# Altium footprint library Capacitor.PcbLib: 76 footprints (part 4 of 5)
Each footprint in its own frame and in the unit in brackets; x right, y up, seen from the top. Pads: shape width x height; smd on the part's side, far side on the other; paste and mask are expansions set on the pad; w line width, h text height; cw(c..) or ccw(c..) is an arc to the next point about the centre after c.
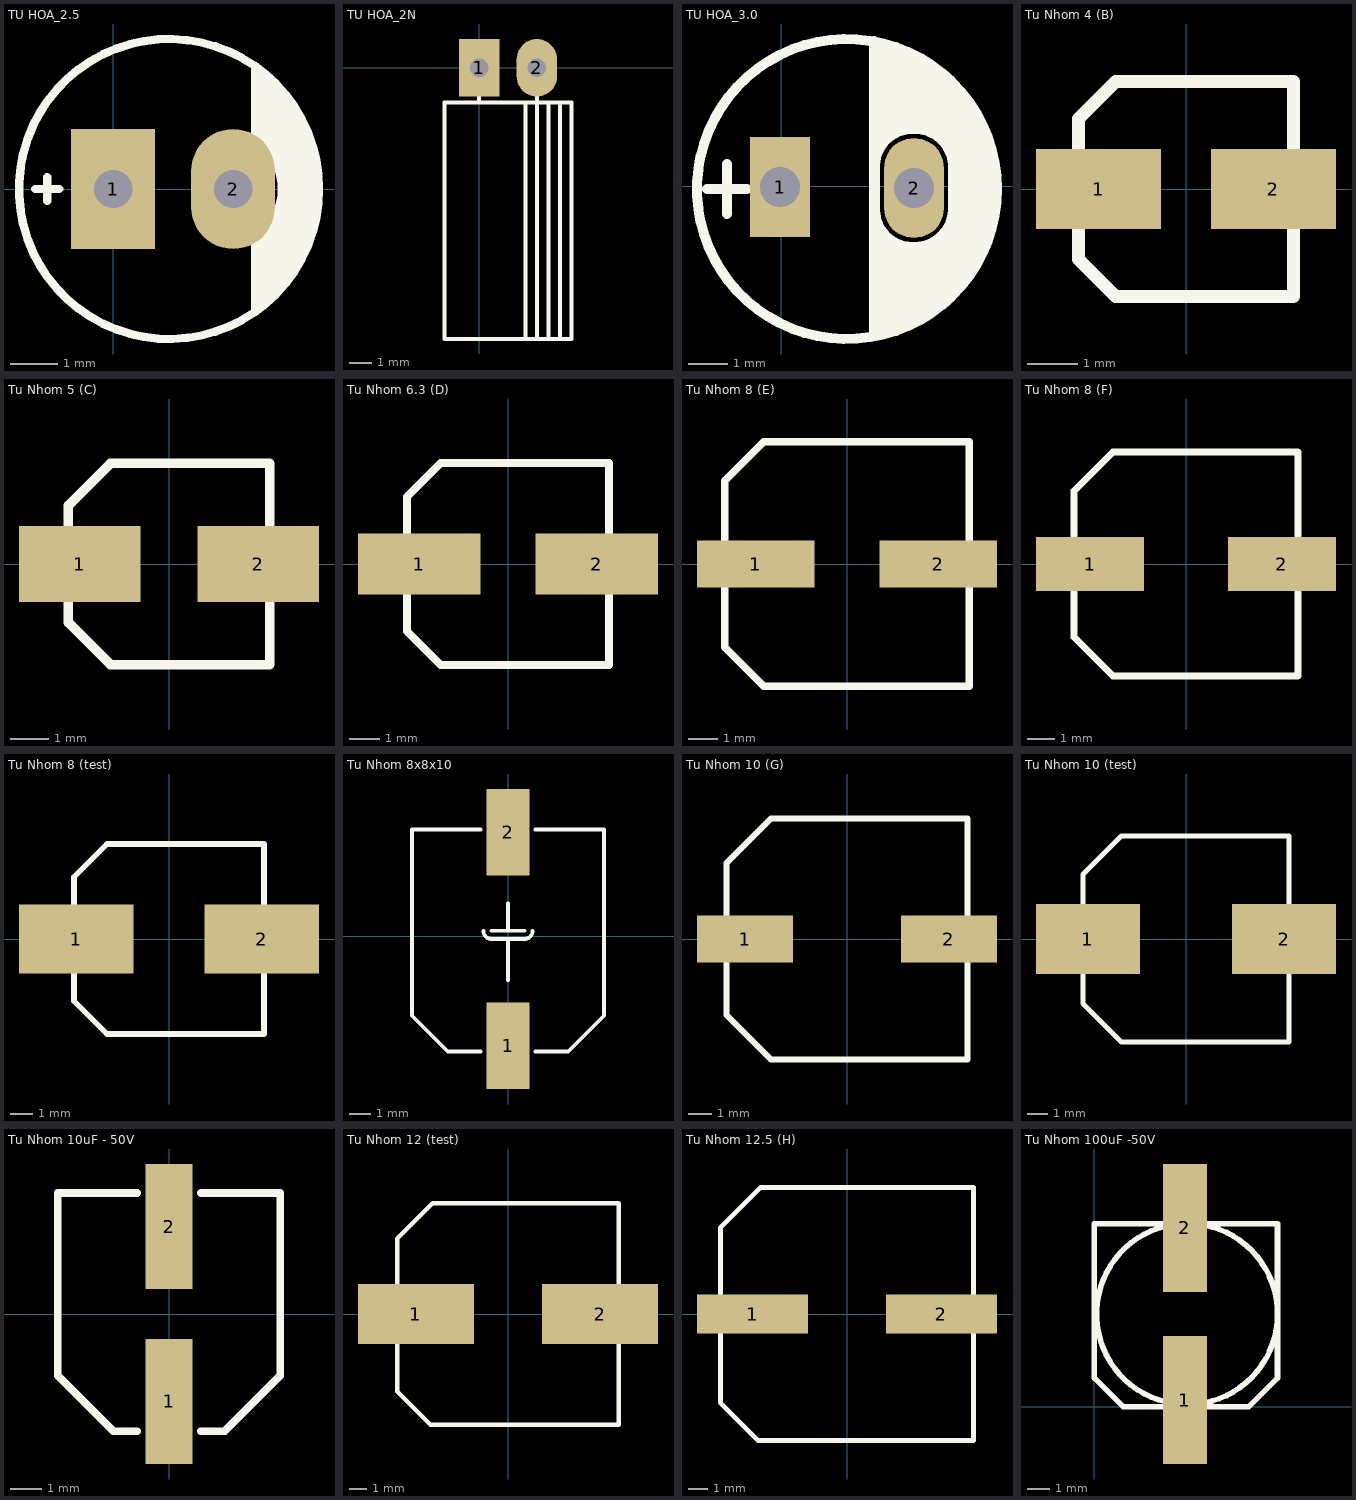
[diagram p3: the footprints below, top view; thin cyan lines are the x and y axes]

## TU HOA_2.5 [mil] "Tu hoa 33 >100 uF,50V, 220uF/16V,25V"
height 300
pads (2):
  rect 70x100 hole 32: 1(0,0)
  oval 70x100 hole 32: 2(100,0)
Top Overlay:
  circle w7: c46.58,0 r125
  region: 115,105 115,36 122,31 129,25 133,20 135,15 137,5 137,-6 135,-14 132,-19 128,-24 124,-28 120,-31 115,-34 115,-107 124,-99 139,-86 152,-69 167,-36 171,-15 171.58,0 167,30 153,67 131,93
  lines w7: -65,0 -45,0 ; -55,-10 -55,-5 -55,5 -55,10
3D body "User Library-Cap 6_3x11.STEP": height 421.54, standoff -759.57, extent -76,-124.03 172.03,124

## TU HOA_2N [mil] "Tu hoa < 22uF/16>50V"
height 300
pads (2):
  rect 70x100 hole 32: 1(0,0)
  oval 70x100 hole 32: 2(100,0)
Top Overlay:
  lines w7: 0,-60 0,-45 ; 80,-470 80,-60 ; 100,-470 100,-60 100,-45 ; 120,-470 120,-60 ; 140,-470 140,-60 ; -60,-470 -60,-60 160,-60 160,-470 -60,-470
3D body "User Library-Cap electro 5x7x2mm RA.STEP": height 199.43, standoff -136.22, extent -54.42,-351.27 144.43,15.7

## TU HOA_3.0 [mil]
pads (2):
  rect 60x100 hole 40: 1(-1,-1)
  oval 60x100 hole 40: 2(133,-2)
Top Overlay:
  circle w10: c66,-3 r150
  region: 93,146 93,37 121,58 143,58 165,42 174,-3 166,-43 141,-62 106,-53 92,-36 93,-150 152,-128 208,-60 216,16 185,93 139,129
  lines w10: -74,-3 -34,-3 ; -54,-28 -54,22 ; 93,-147 93,145 ; 94,-27 94,22 cw(c131.5,19.5) 131.01,57.08 ; 94,-25 ccw(c131.5,-23.5) 133,-61 ccw(c133.5,-22.5) 172,-23 ; 131,57 cw(c134,19) 172,22 ; 172,-30 172,25
3D body "User Library-CAP 8X11_5.STEP": height 452.87, standoff -747.43, extent -90,-162.48 224.96,152.48

## Tu Nhom 4 (B) [mm]
pads (2):
  rect 2.5x1.6 smd: 1(-1.75,0) 2(1.75,0)
Top Overlay:
  lines w0.254: -2.15,-1.406 -2.15,1.406 -1.406,2.15 2.15,2.15 2.15,-2.15 -1.406,-2.15 -2.15,-1.406
3D body "aluminum capacitor 4mm.STEP": height 3.91, standoff 0, extent -2.314,-2.15 2.286,2.15

## Tu Nhom 5 (C) [mm]
pads (2):
  rect 3.2x2 smd: 1(-2.35,0) 2(2.35,0)
Top Overlay:
  lines w0.254: -2.65,-1.541 -2.65,1.541 -1.541,2.65 2.65,2.65 2.65,-2.65 -1.541,-2.65 -2.65,-1.541
3D body "aluminum capacitor 5x5_4.step": height 5.7, standoff 0, extent -3.15,-2.65 3.15,2.65

## Tu Nhom 6.3 (D) [mm]
pads (2):
  rect 4x2 smd: 1(-2.9,0) 2(2.9,0)
Top Overlay:
  lines w0.254: -3.3,-2.2 -2.2,-3.3 3.3,-3.3 3.3,3.3 -2.2,3.3 -3.3,2.2 -3.3,-2.2
3D body "aluminum capacitor 6_3x7_7.step": height 8, standoff 0, extent -3.8,-3.3 3.8,3.3

## Tu Nhom 8 (E) [mm]
pads (2):
  rect 4x1.6 smd: 1(-3.1,0) 2(3.1,0)
Top Overlay:
  lines w0.254: -4.15,-2.835 -2.835,-4.15 4.15,-4.15 4.15,4.15 -2.835,4.15 -4.15,2.835 -4.15,-2.835
3D body "aluminum capacitor 8mm.STEP": height 10.5, standoff 0, extent -4.877,-4.25 4.823,4.25

## Tu Nhom 8 (F) [mm]
pads (2):
  rect 4x2 smd: 1(-3.55,0) 2(3.55,0)
Top Overlay:
  lines w0.254: -4.15,-2.708 -2.708,-4.15 4.15,-4.15 4.15,4.15 -2.708,4.15 -4.15,2.708 -4.15,-2.708
3D body "aluminum capacitor 8mm.STEP": height 10.5, standoff 0, extent -4.852,-4.25 4.848,4.25

## Tu Nhom 8 (test) [mm]
pads (2):
  rect 5x3 smd: 1(-4.05,0) 2(4.05,0)
Top Overlay:
  lines w0.254: -4.15,-2.708 -2.708,-4.15 4.15,-4.15 4.15,4.15 -2.708,4.15 -4.15,2.708 -4.15,-2.708
3D body "aluminum capacitor 8mm.STEP": height 10.5, standoff 0, extent -4.852,-4.25 4.848,4.25

## Tu Nhom 8x8x10 [mm] "100uF-50v"
pads (2):
  rect 2x4 smd: 1(0,-5.08) 2(0,4.826)
Top Overlay:
  lines w0.178: -1.27,-5.334 -2.794,-5.334 -4.445,-3.683 -4.445,4.953 -1.27,4.953 ; -1.143,0.254 ccw(c-0.762,0.254) -0.762,-0.127 0,-0.127 ; -0.762,0.254 0.762,0.254 ; 0,-2.032 0,-0.127 ; 0,0.254 0,1.524 ; 1.143,0.254 cw(c0.762,0.254) 0.762,-0.127 0,-0.127 ; 1.27,-5.334 2.794,-5.334 4.445,-3.683 4.445,4.953 1.27,4.953
3D body "Tu nhom 8x8x10.STEP": height 10.51, standoff 0.01, extent -4.25,-5.106 4.25,4.594

## Tu Nhom 10 (G) [mm]
pads (2):
  rect 4.1x2 smd: 1(-4.35,0) 2(4.35,0)
Top Overlay:
  lines w0.254: -5.15,-3.232 -3.232,-5.15 5.15,-5.15 5.15,5.15 -3.232,5.15 -5.15,3.232 -5.15,-3.232
3D body "alumimun capacitor 10mm.STEP": height 10.5, standoff 0, extent -5.901,-5.25 5.899,5.25

## Tu Nhom 10 (test) [mm]
pads (2):
  rect 5.2x3.5 smd: 1(-4.9,0) 2(4.9,0)
Top Overlay:
  lines w0.254: -5.15,-3.232 -5.15,3.232 -3.232,5.15 5.15,5.15 5.15,-5.15 -3.232,-5.15 -5.15,-3.232
3D body "alumimun capacitor 10mm.STEP": height 10.5, standoff 0, extent -5.901,-5.25 5.899,5.25

## Tu Nhom 10uF - 50V [mm]
pads (2):
  rect 1.5x4 smd: 1(0,-2.794) 2(0,2.794)
Top Overlay:
  lines w0.254: -1.016,-3.746 -1.778,-3.746 -3.556,-1.968 -3.556,3.873 -1.016,3.873 ; 1.016,-3.746 1.778,-3.746 3.556,-1.968 3.556,3.873 1.016,3.873
3D body "Tu Nhom 27uF 20V.step": height 6.15, standoff 0.2, extent -3.3,-3.587 3.3,3.713

## Tu Nhom 12 (test) [mm]
pads (2):
  rect 6.8x3.5 smd: 1(-5.4,0) 2(5.4,0)
Top Overlay:
  lines w0.254: -6.5,-4.549 -6.5,4.422 -4.422,6.5 6.5,6.5 6.5,-6.5 -4.549,-6.5 -6.5,-4.549

## Tu Nhom 12.5 (H) [mm]
pads (2):
  rect 5.7x2 smd: 1(-4.85,0) 2(4.85,0)
Top Overlay:
  lines w0.254: -6.5,-4.549 -6.5,4.422 -4.422,6.5 6.5,6.5 6.5,-6.5 -4.549,-6.5 -6.5,-4.549

## Tu Nhom 100uF -50V [mm]
pads (2):
  rect 2x5.8 smd: 1(4.1,0.3) 2(4.1,8.1)
Top Overlay:
  circle w0.254: c4.2,4.2 r4.105
  lines w0.254: 1.4,0 1.3,0 ; 1.3,0 0,1.3 0,1.4 0,8.3 8.3,8.3 8.3,1.3 7,0 1.3,0
3D body "Tu nhom 180uF 16V.step": height 7.9, standoff -0.05, extent -1.086,-1.309 9.214,9.691